# EAGLE library part TFT2.8_50PIN (library Ai_Connectors)
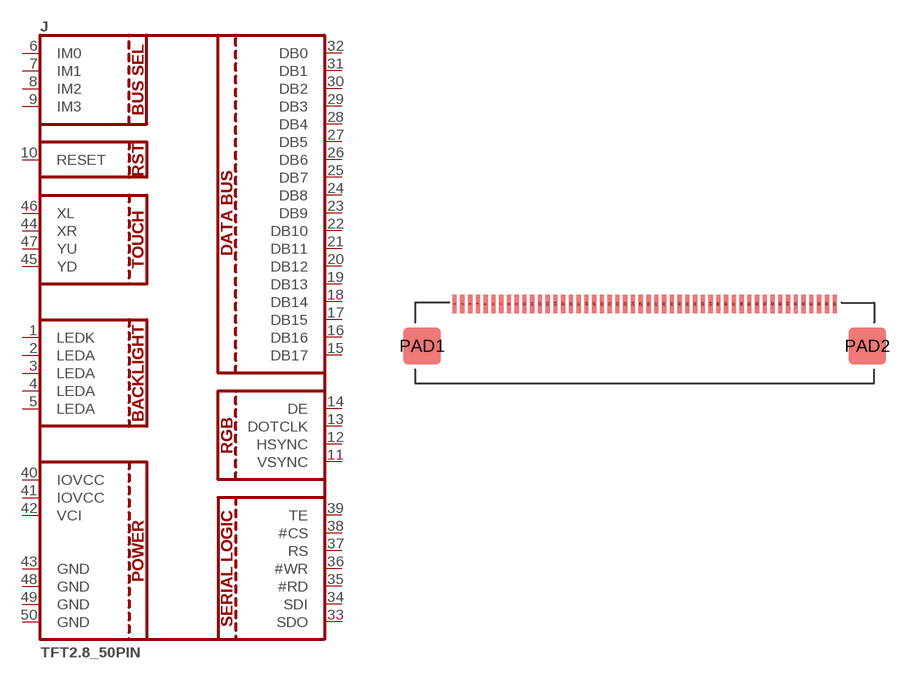
[diagram p12: symbol with the pads of TFT2.8_50PIN; footprint TFT2.8_50PIN]

Designator prefix J

## TFT2.8_50PIN  [TFT2.8_50PIN]
1  LEDK
2  LEDA
3  LEDA
4  LEDA
5  LEDA
6  IM0
7  IM1
8  IM2
9  IM3
10  RESET
11  VSYNC
12  HSYNC
13  DOTCLK
14  DE
15  DB17
16  DB16
17  DB15
18  DB14
19  DB13
20  DB12
21  DB11
22  DB10
23  DB9
24  DB8
25  DB7
26  DB6
27  DB5
28  DB4
29  DB3
30  DB2
31  DB1
32  DB0
33  SDO
34  SDI
35  #RD
36  #WR
37  RS
38  #CS
39  TE
40  IOVCC
41  IOVCC
42  VCI
43  GND
44  XR
45  YD
46  XL
47  YU
48  GND
49  GND
50  GND

## Footprint TFT2.8_50PIN (pad centres in mm)
smd 0.275 x 1.2: 1 -12.25,2.945; 2 -11.75,2.945; 3 -11.25,2.945; 4 -10.75,2.945; 5 -10.25,2.945; 6 -9.75,2.945; 7 -9.25,2.945; 8 -8.75,2.945; 9 -8.25,2.945; 10 -7.75,2.945; 11 -7.25,2.945; 12 -6.75,2.945; 13 -6.25,2.945; 14 -5.75,2.945; 15 -5.25,2.945; 16 -4.75,2.945; 17 -4.25,2.945; 18 -3.75,2.945; 19 -3.25,2.945; 20 -2.75,2.945; 21 -2.25,2.945; 22 -1.75,2.945; 23 -1.25,2.945; 24 -0.75,2.945; 25 -0.25,2.945; 26 0.25,2.945; 27 0.75,2.945; 28 1.25,2.945; 29 1.75,2.945; 30 2.25,2.945; 31 2.75,2.945; 32 3.25,2.945; 33 3.75,2.945; 34 4.25,2.945; 35 4.75,2.945; 36 5.25,2.945; 37 5.75,2.945; 38 6.25,2.945; 39 6.75,2.945; 40 7.25,2.945; 41 7.75,2.945; 42 8.25,2.945; 43 8.75,2.945; 44 9.25,2.945; 45 9.75,2.945; 46 10.25,2.945; 47 10.75,2.945; 48 11.25,2.945; 49 11.75,2.945; 50 12.25,2.945
smd 2.4 x 2.4: PAD1 -14.35,0.245; PAD2 14.35,0.245